# Altium footprint library uBlox.PcbLib: 4 footprints
Each footprint in its own frame and in the unit in brackets; x right, y up, seen from the top. Pads: shape width x height; smd on the part's side, far side on the other; paste and mask are expansions set on the pad; w line width, h text height; cw(c..) or ccw(c..) is an arc to the next point about the centre after c.
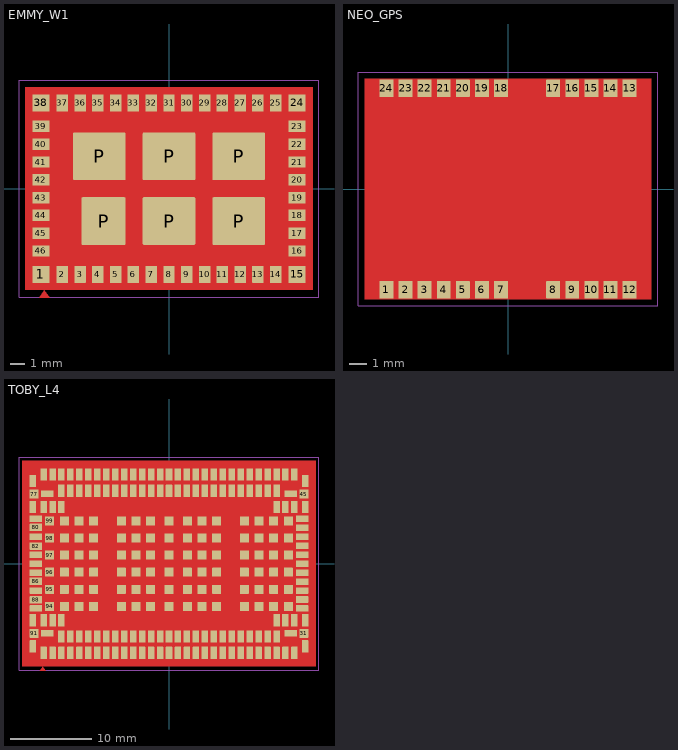
[diagram p0: the footprints below, top view; thin cyan lines are the x and y axes]

## EMMY_W1 [mm]
pads (52):
  rrect5% 1.2x1.2 smd paste-0.025 mask+0.051: 1(-9,-6.025) 15(9,-6.025) 24(9,6.025) 38(-9,6.025)
  rrect5% 0.8x1.2 smd paste-0.025 mask+0.051: 2(-7.5,-6.025) 3(-6.25,-6.025) 4(-5,-6.025) 5(-3.75,-6.025) 6(-2.5,-6.025) 7(-1.25,-6.025) 8(0,-6.025) 9(1.25,-6.025) 10(2.5,-6.025) 11(3.75,-6.025) 12(5,-6.025) 13(6.25,-6.025) 14(7.5,-6.025) 25(7.5,6.025) 26(6.25,6.025) 27(5,6.025) 28(3.75,6.025) 29(2.5,6.025) 30(1.25,6.025) 31(0,6.025) 32(-1.25,6.025) 33(-2.5,6.025) 34(-3.75,6.025) 35(-5,6.025) 36(-6.25,6.025) 37(-7.5,6.025)
  rrect5% 1.2x0.8 smd paste-0.025 mask+0.051: 16(9,-4.375) 17(9,-3.125) 18(9,-1.875) 19(9,-0.625) 20(9,0.625) 21(9,1.875) 22(9,3.125) 23(9,4.375) 39(-9,4.375) 40(-9,3.125) 41(-9,1.875) 42(-9,0.625) 43(-9,-0.625) 44(-9,-1.875) 45(-9,-3.125) 46(-9,-4.375)
  rrect5% 3.7x3.35 smd paste-200 mask+0.051: P(-4.9,2.275) P(0,-2.275) P(0,2.275) P(4.9,-2.275) P(4.9,2.275)
  rrect5% 3.1x3.35 smd paste-200 mask+0.051: P(-4.6,-2.275)
Top Layer:
  pour cut-out: -10.109,7.112 -10.109,-7.112 10.109,-7.112 10.109,7.112
  region: -8.75,-7.125 -9.109,-7.664 -8.391,-7.664
  region: -9.607,6.912 -9.587,6.912 -9.549,6.927 -9.521,6.956 -9.505,6.993 -9.505,7.013 -9.505,7.034 -9.521,7.071 -9.549,7.1 -9.587,7.115 -9.607,7.115 -10.013,7.115 -10.034,7.115 -10.071,7.1 -10.1,7.071 -10.115,7.034 -10.115,7.013 -10.115,6.607 -10.115,6.587 -10.1,6.549 -10.071,6.521 -10.034,6.505 -10.013,6.505 -9.993,6.505 -9.956,6.521 -9.927,6.549 -9.912,6.587 -9.912,6.607 -9.912,6.861 -9.911,6.871 -9.903,6.889 -9.889,6.903 -9.871,6.911 -9.861,6.912
  region: 9.912,6.607 9.912,6.587 9.927,6.549 9.956,6.521 9.993,6.505 10.013,6.505 10.034,6.505 10.071,6.521 10.1,6.549 10.115,6.587 10.115,6.607 10.115,7.013 10.115,7.034 10.1,7.071 10.071,7.1 10.034,7.115 10.013,7.115 9.607,7.115 9.587,7.115 9.549,7.1 9.521,7.071 9.505,7.034 9.505,7.013 9.505,6.993 9.521,6.956 9.549,6.927 9.587,6.912 9.607,6.912 9.861,6.912 9.871,6.911 9.889,6.903 9.903,6.889 9.911,6.871 9.912,6.861
  region: 9.607,-6.912 9.587,-6.912 9.549,-6.927 9.521,-6.956 9.505,-6.993 9.505,-7.013 9.505,-7.034 9.521,-7.071 9.549,-7.1 9.587,-7.115 9.607,-7.115 10.013,-7.115 10.034,-7.115 10.071,-7.1 10.1,-7.071 10.115,-7.034 10.115,-7.013 10.115,-6.607 10.115,-6.587 10.1,-6.549 10.071,-6.521 10.034,-6.505 10.013,-6.505 9.993,-6.505 9.956,-6.521 9.927,-6.549 9.912,-6.587 9.912,-6.607 9.912,-6.861 9.911,-6.871 9.903,-6.889 9.889,-6.903 9.871,-6.911 9.861,-6.912
  region: -9.912,-6.607 -9.912,-6.587 -9.927,-6.549 -9.956,-6.521 -9.993,-6.505 -10.013,-6.505 -10.034,-6.505 -10.071,-6.521 -10.1,-6.549 -10.115,-6.587 -10.115,-6.607 -10.115,-7.013 -10.115,-7.034 -10.1,-7.071 -10.071,-7.1 -10.034,-7.115 -10.013,-7.115 -9.607,-7.115 -9.587,-7.115 -9.549,-7.1 -9.521,-7.071 -9.505,-7.034 -9.505,-7.013 -9.505,-6.993 -9.521,-6.956 -9.549,-6.927 -9.587,-6.912 -9.607,-6.912 -9.861,-6.912 -9.871,-6.911 -9.889,-6.903 -9.903,-6.889 -9.911,-6.871 -9.912,-6.861
  region: -6,-3.95 -6.054,-3.95 -6.071,-3.95 -6.104,-3.943 -6.135,-3.931 -6.163,-3.912 -6.175,-3.9 -6.74,-3.335 -6.748,-3.327 -6.761,-3.307 -6.77,-3.285 -6.775,-3.262 -6.775,-3.25 -6.775,-0.675 -6.775,-0.66 -6.764,-0.633 -6.742,-0.611 -6.715,-0.6 -6.7,-0.6 -6,-0.6
Top Paste:
  region: 1.75,-0.697 0.25,-0.697 0.25,-2.028 1.75,-2.028
  region: -0.25,-0.697 -1.75,-0.697 -1.75,-2.028 -0.25,-2.028
  rectangle: 0.25,-3.853 1.75,-2.528
  rectangle: -1.75,-3.853 -0.25,-2.528
  region: 6.65,-0.697 5.15,-0.697 5.15,-2.028 6.65,-2.028
  region: 4.65,-0.697 3.15,-0.697 3.15,-2.028 4.65,-2.028
  rectangle: 5.15,-3.853 6.65,-2.528
  rectangle: 3.15,-3.853 4.65,-2.528
  region: 6.65,3.853 5.15,3.853 5.15,2.522 6.65,2.522
  region: 4.65,3.853 3.15,3.853 3.15,2.522 4.65,2.522
  rectangle: 5.15,0.697 6.65,2.022
  rectangle: 3.15,0.697 4.65,2.022
  region: -3.15,3.853 -4.65,3.853 -4.65,2.522 -3.15,2.522
  region: -5.15,3.853 -6.65,3.853 -6.65,2.522 -5.15,2.522
  rectangle: -4.65,0.697 -3.15,2.022
  rectangle: -6.65,0.697 -5.15,2.022
  region: 1.75,3.853 0.25,3.853 0.25,2.522 1.75,2.522
  region: -0.25,3.853 -1.75,3.853 -1.75,2.522 -0.25,2.522
  rectangle: 0.25,0.697 1.75,2.022
  rectangle: -1.75,0.697 -0.25,2.022
  rectangle: -4.65,-3.853 -3.15,-2.528
  region: -5.15,-0.697 -6.65,-0.697 -6.65,-2.028 -5.15,-2.028
  region: -3.15,-0.697 -4.65,-0.697 -4.65,-2.028 -3.15,-2.028
  region: -5.15,-2.528 -6.65,-2.528 -6.65,-3.225 -6.022,-3.853 -5.15,-3.853
Top Courtyard:
  lines w0.025: -10.541,-7.62 -10.541,7.62 10.541,7.62 10.541,-7.62 -10.541,-7.62
Top Component Outline:
  lines w0.025: -9.9,-6.9 9.9,-6.9 9.9,6.9 -9.9,6.9 -9.9,-6.9 ; -9.646,-6.392 ccw(c-9.392,-6.392) -9.392,-6.646 9.392,-6.646 ccw(c9.392,-6.392) 9.646,-6.392 9.646,6.392 ccw(c9.392,6.392) 9.392,6.646 -9.392,6.646 ccw(c-9.392,6.392) -9.646,6.392 -9.646,-6.392 ; -9.392,-6.138 ccw(c-9.138,-6.138) -9.138,-6.392 9.138,-6.392 ccw(c9.138,-6.138) 9.392,-6.138 9.392,6.138 ccw(c9.138,6.138) 9.138,6.392 -9.138,6.392 ccw(c-9.138,6.138) -9.392,6.138 -9.392,-6.138
3D body: height 0.8, standoff 0, extent -9.9,-6.9 9.9,6.9
3D body: height 2.51, standoff 2.49, extent -9.392,-6.392 9.392,6.392
3D body: height 2.5, standoff 0.25, extent -9.646,-6.646 9.646,6.646

## NEO_GPS [mm]
pads (24):
  rrect5% 0.8x1 smd paste-0.025 mask+0.051: 1(-7,-5.8) 2(-5.9,-5.8) 3(-4.8,-5.8) 4(-3.7,-5.8) 5(-2.6,-5.8) 6(-1.5,-5.8) 7(-0.4,-5.8) 8(2.6,-5.8) 9(3.7,-5.8) 10(4.8,-5.8) 11(5.9,-5.8) 12(7,-5.8) 13(7,5.8) 14(5.9,5.8) 15(4.8,5.8) 16(3.7,5.8) 17(2.6,5.8) 18(-0.4,5.8) 19(-1.5,5.8) 20(-2.6,5.8) 21(-3.7,5.8) 22(-4.8,5.8) 23(-5.9,5.8) 24(-7,5.8)
Top Layer:
  pour cut-out: 8.255,6.35 -8.255,6.35 -8.255,-6.35 8.255,-6.35
  region: -7.834,6.112 -7.814,6.112 -7.776,6.127 -7.748,6.156 -7.732,6.193 -7.732,6.213 -7.732,6.234 -7.748,6.271 -7.776,6.299 -7.814,6.315 -7.834,6.315 -8.113,6.315 -8.134,6.315 -8.171,6.3 -8.2,6.271 -8.215,6.234 -8.215,6.213 -8.215,5.807 -8.215,5.787 -8.2,5.749 -8.171,5.721 -8.134,5.705 -8.113,5.705 -8.093,5.705 -8.056,5.721 -8.027,5.749 -8.012,5.787 -8.012,5.807 -8.012,6.061 -8.011,6.071 -8.003,6.089 -7.989,6.103 -7.971,6.111 -7.961,6.112
  region: 7.834,-6.112 7.814,-6.112 7.776,-6.127 7.748,-6.156 7.732,-6.193 7.732,-6.213 7.732,-6.234 7.748,-6.271 7.776,-6.299 7.814,-6.315 7.834,-6.315 8.113,-6.315 8.134,-6.315 8.171,-6.3 8.2,-6.271 8.215,-6.234 8.215,-6.213 8.215,-5.807 8.215,-5.787 8.2,-5.749 8.171,-5.721 8.134,-5.705 8.113,-5.705 8.093,-5.705 8.056,-5.721 8.027,-5.749 8.012,-5.787 8.012,-5.807 8.012,-6.061 8.011,-6.071 8.003,-6.089 7.989,-6.103 7.971,-6.111 7.961,-6.112
  region: 7.834,6.112 7.814,6.112 7.776,6.127 7.748,6.156 7.732,6.193 7.732,6.213 7.732,6.234 7.748,6.271 7.776,6.299 7.814,6.315 7.834,6.315 8.113,6.315 8.134,6.315 8.171,6.3 8.2,6.271 8.215,6.234 8.215,6.213 8.215,5.807 8.215,5.787 8.2,5.749 8.171,5.721 8.134,5.705 8.113,5.705 8.093,5.705 8.056,5.721 8.027,5.749 8.012,5.787 8.012,5.807 8.012,6.061 8.011,6.071 8.003,6.089 7.989,6.103 7.971,6.111 7.961,6.112
  region: -7.834,-6.112 -7.814,-6.112 -7.776,-6.127 -7.748,-6.156 -7.732,-6.193 -7.732,-6.213 -7.732,-6.234 -7.748,-6.271 -7.776,-6.299 -7.814,-6.315 -7.834,-6.315 -8.113,-6.315 -8.134,-6.315 -8.171,-6.3 -8.2,-6.271 -8.215,-6.234 -8.215,-6.213 -8.215,-5.807 -8.215,-5.787 -8.2,-5.749 -8.171,-5.721 -8.134,-5.705 -8.113,-5.705 -8.093,-5.705 -8.056,-5.721 -8.027,-5.749 -8.012,-5.787 -8.012,-5.807 -8.012,-6.061 -8.011,-6.071 -8.003,-6.089 -7.989,-6.103 -7.971,-6.111 -7.961,-6.112
Top Courtyard:
  lines w0.025: -8.636,-6.731 8.636,-6.731 8.636,6.731 -8.636,6.731 -8.636,-6.731
Top Component Outline:
  drawing of 284 lines, arcs and shapes, not listed
3D body "NEO.STEP": height 2.3, standoff -0.03, extent -8,-6.1 8,6.1

## TOBY_L4 [mm]
pads (248):
  rrect5% 0.8x1.5 smd paste-0.025 mask+0.051: 1(-15.4,-10.95) 2(-14.3,-10.95) 3(-13.2,-10.95) 4(-12.1,-10.95) 5(-11,-10.95) 6(-9.9,-10.95) 7(-8.8,-10.95) 8(-7.7,-10.95) 9(-6.6,-10.95) 10(-5.5,-10.95) 11(-4.4,-10.95) 12(-3.3,-10.95) 13(-2.2,-10.95) 14(-1.1,-10.95) 15(0,-10.95) 16(1.1,-10.95) 17(2.2,-10.95) 18(3.3,-10.95) 19(4.4,-10.95) 20(5.5,-10.95) 21(6.6,-10.95) 22(7.7,-10.95) 23(8.8,-10.95) 24(9.9,-10.95) 25(11,-10.95) 26(12.1,-10.95) 27(13.2,-10.95) 28(14.3,-10.95) 29(15.4,-10.95) 30(16.7,-10.15) 32(16.7,-6.95) 44(16.7,6.95) 46(16.7,10.15) 47(15.4,10.95) 48(14.3,10.95) 49(13.2,10.95) 50(12.1,10.95) 51(11,10.95) 52(9.9,10.95) 53(8.8,10.95) 54(7.7,10.95) 55(6.6,10.95) 56(5.5,10.95) 57(4.4,10.95) 58(3.3,10.95) 59(2.2,10.95) 60(1.1,10.95) 61(0,10.95) 62(-1.1,10.95) 63(-2.2,10.95) 64(-3.3,10.95) 65(-4.4,10.95) 66(-5.5,10.95) 67(-6.6,10.95) 68(-7.7,10.95) 69(-8.8,10.95) 70(-9.9,10.95) 71(-11,10.95) 72(-12.1,10.95) 73(-13.2,10.95) 74(-14.3,10.95) 75(-15.4,10.95) 76(-16.7,10.15) 78(-16.7,6.95) 90(-16.7,-6.95) 92(-16.7,-10.15) 153(-15.4,-6.95) 154(-15.4,6.95) 155(-14.3,-6.95) 156(-14.3,6.95) 157(-13.2,-6.95) 158(-13.2,6.95) 193(13.2,-6.95) 194(13.2,6.95) 195(14.3,-6.95) 196(14.3,6.95) 197(15.4,-6.95) 198(15.4,6.95) 199(-13.2,-8.95) 200(-12.1,-8.95) 201(-11,-8.95) 202(-9.9,-8.95) 203(-8.8,-8.95) 204(-7.7,-8.95) 205(-6.6,-8.95) 206(-5.5,-8.95) 207(-4.4,-8.95) 208(-3.3,-8.95) 209(-2.2,-8.95) 210(-1.1,-8.95) 211(0,-8.95) 212(1.1,-8.95) 213(2.2,-8.95) 214(3.3,-8.95) 215(4.4,-8.95) 216(5.5,-8.95) 217(6.6,-8.95) 218(7.7,-8.95) 219(8.8,-8.95) 220(9.9,-8.95) 221(11,-8.95) 222(12.1,-8.95) 223(13.2,-8.95) 224(13.2,8.95) 225(12.1,8.95) 226(11,8.95) 227(9.9,8.95) 228(8.8,8.95) 229(7.7,8.95) 230(6.6,8.95) 231(5.5,8.95) 232(4.4,8.95) 233(3.3,8.95) 234(2.2,8.95) 235(1.1,8.95) 236(0,8.95) 237(-1.1,8.95) 238(-2.2,8.95) 239(-3.3,8.95) 240(-4.4,8.95) 241(-5.5,8.95) 242(-6.6,8.95) 243(-7.7,8.95) 244(-8.8,8.95) 245(-9.9,8.95) 246(-11,8.95) 247(-12.1,8.95) 248(-13.2,8.95)
  rrect5% 1.1x1.1 smd paste-0.025 mask+0.051: 31(16.55,-8.55) 45(16.55,8.55) 77(-16.55,8.55) 91(-16.55,-8.55) 94(-14.65,-5.25) 95(-14.65,-3.15) 96(-14.65,-1.05) 97(-14.65,1.05) 98(-14.65,3.15) 99(-14.65,5.25) 101(-12.85,-5.25) 102(-12.85,-3.15) 103(-12.85,-1.05) 104(-12.85,1.05) 105(-12.85,3.15) 106(-12.85,5.25) 107(-11.05,-5.25) 108(-11.05,5.25) 109(-5.85,-5.25) 110(-5.85,-3.15) 111(-5.85,-1.05) 112(-5.85,1.05) 113(-5.85,3.15) 114(-5.85,5.25) 115(-4.05,-5.25) 116(-4.05,-3.15) 117(-4.05,-1.05) 118(-4.05,1.05) 119(-4.05,3.15) 120(-4.05,5.25) 121(-2.25,-5.25) 122(-2.25,5.25) 123(2.25,-5.25) 124(2.25,5.25) 125(4.05,-5.25) 126(4.05,-3.15) 127(4.05,-1.05) 128(4.05,1.05) 129(4.05,3.15) 130(4.05,5.25) 131(5.85,-5.25) 132(5.85,-3.15) 133(5.85,-1.05) 134(5.85,1.05) 135(5.85,3.15) 136(5.85,5.25) 137(11.05,-5.25) 138(11.05,5.25) 139(12.85,-5.25) 140(12.85,-3.15) 141(12.85,-1.05) 142(12.85,1.05) 143(12.85,3.15) 144(12.85,5.25) 146(14.65,-5.25) 147(14.65,-3.15) 148(14.65,-1.05) 149(14.65,1.05) 150(14.65,3.15) 151(14.65,5.25) 159(-11.05,-3.15) 160(-11.05,-1.05) 161(-11.05,1.05) 162(-11.05,3.15) 163(-9.25,-5.25) 164(-9.25,-3.15) 165(-9.25,-1.05) 166(-9.25,1.05) 167(-9.25,3.15) 168(-9.25,5.25) 169(-2.25,-3.15) 170(-2.25,-1.05) 171(-2.25,1.05) 172(-2.25,3.15) 173(0,-5.25) 174(0,-3.15) 175(0,-1.05) 176(0,1.05) 177(0,3.15) 178(0,5.25) 179(2.25,-3.15) 180(2.25,-1.05) 181(2.25,1.05) 182(2.25,3.15) 183(9.25,-5.25) 184(9.25,-3.15) 185(9.25,-1.05) 186(9.25,1.05) 187(9.25,3.15) 188(9.25,5.25) 189(11.05,-3.15) 190(11.05,-1.05) 191(11.05,1.05) 192(11.05,3.15)
  rrect5% 1.5x0.8 smd paste-0.025 mask+0.051: 33(16.35,-5.5) 34(16.35,-4.4) 35(16.35,-3.3) 36(16.35,-2.2) 37(16.35,-1.1) 38(16.35,0) 39(16.35,1.1) 40(16.35,2.2) 41(16.35,3.3) 42(16.35,4.4) 43(16.35,5.5) 79(-16.35,5.5) 81(-16.35,3.3) 83(-16.35,1.1) 84(-16.35,0) 85(-16.35,-1.1) 87(-16.35,-3.3) 89(-16.35,-5.5) 93(-14.95,-8.555) 100(-14.95,8.555) 145(14.95,-8.555) 152(14.95,8.555)
  rrect5% 1.5x0.9 smd paste-0.025 mask+0.051: 80(-16.35,4.45) 82(-16.35,2.15) 86(-16.35,-2.15) 88(-16.35,-4.45)
Top Layer:
  pour cut-out: 18.034,12.624 -18.034,12.624 -18.034,-12.624 18.034,-12.624
  region: -15.5,-12.625 -15.859,-13.164 -15.141,-13.164
  region: 17.507,-12.412 17.487,-12.412 17.449,-12.427 17.421,-12.456 17.405,-12.493 17.405,-12.513 17.405,-12.534 17.421,-12.571 17.449,-12.599 17.487,-12.615 17.507,-12.615 17.913,-12.615 17.934,-12.615 17.971,-12.599 18,-12.571 18.015,-12.534 18.015,-12.513 18.015,-12.107 18.015,-12.087 18,-12.049 17.971,-12.021 17.934,-12.005 17.913,-12.005 17.893,-12.005 17.856,-12.021 17.827,-12.049 17.812,-12.087 17.812,-12.107 17.812,-12.361 17.811,-12.371 17.803,-12.389 17.789,-12.403 17.771,-12.411 17.761,-12.412
  region: -17.812,-12.107 -17.812,-12.087 -17.827,-12.049 -17.856,-12.021 -17.893,-12.005 -17.913,-12.005 -17.934,-12.005 -17.971,-12.021 -18,-12.049 -18.015,-12.087 -18.015,-12.107 -18.015,-12.513 -18.015,-12.534 -18,-12.571 -17.971,-12.6 -17.934,-12.615 -17.913,-12.615 -17.507,-12.615 -17.487,-12.615 -17.449,-12.6 -17.421,-12.571 -17.405,-12.534 -17.405,-12.513 -17.405,-12.493 -17.421,-12.456 -17.449,-12.427 -17.487,-12.412 -17.507,-12.412 -17.761,-12.412 -17.771,-12.411 -17.789,-12.403 -17.803,-12.389 -17.811,-12.371 -17.812,-12.361
  region: -17.507,12.412 -17.487,12.412 -17.449,12.427 -17.421,12.456 -17.405,12.493 -17.405,12.513 -17.405,12.534 -17.421,12.571 -17.449,12.6 -17.487,12.615 -17.507,12.615 -17.913,12.615 -17.934,12.615 -17.971,12.6 -18,12.571 -18.015,12.534 -18.015,12.513 -18.015,12.107 -18.015,12.087 -18,12.049 -17.971,12.021 -17.934,12.005 -17.913,12.005 -17.893,12.005 -17.856,12.021 -17.827,12.049 -17.812,12.087 -17.812,12.107 -17.812,12.361 -17.811,12.371 -17.803,12.389 -17.789,12.403 -17.771,12.411 -17.761,12.412
  region: 17.812,12.107 17.812,12.087 17.827,12.049 17.856,12.021 17.893,12.005 17.913,12.005 17.934,12.005 17.971,12.021 18,12.049 18.015,12.087 18.015,12.107 18.015,12.513 18.015,12.534 18,12.571 17.971,12.6 17.934,12.615 17.913,12.615 17.507,12.615 17.487,12.615 17.449,12.6 17.421,12.571 17.405,12.534 17.405,12.513 17.405,12.493 17.421,12.456 17.449,12.427 17.487,12.412 17.507,12.412 17.761,12.412 17.771,12.411 17.789,12.403 17.803,12.389 17.811,12.371 17.812,12.361
Top Courtyard:
  lines w0.025: -18.415,-13.081 -18.415,13.081 18.415,13.081 18.415,-13.081 -18.415,-13.081
Top Component Outline:
  lines w0.025: -0.254,0 0,0 0,0.254 ; -17.8,-12.4 -17.8,12.4 17.8,12.4 17.8,-12.4 -17.8,-12.4 ; -17.546,-11.892 ccw(c-17.292,-11.892) -17.292,-12.146 17.292,-12.146 ccw(c17.292,-11.892) 17.546,-11.892 17.546,11.892 ccw(c17.292,11.892) 17.292,12.146 -17.292,12.146 ccw(c-17.292,11.892) -17.546,11.892 -17.546,-11.892 ; -17.292,-11.638 ccw(c-17.038,-11.638) -17.038,-11.892 17.038,-11.892 ccw(c17.038,-11.638) 17.292,-11.638 17.292,11.638 ccw(c17.038,11.638) 17.038,11.892 -17.038,11.892 ccw(c-17.038,11.638) -17.292,11.638 -17.292,-11.638
3D body: height 0.8, standoff 0, extent -17.8,-12.4 17.8,12.4
3D body: height 2.57, standoff 0.25, extent -17.546,-12.146 17.546,12.146
3D body: height 2.6, standoff 2.54, extent -17.292,-11.892 17.292,11.892

## ZED-F9T [mm] "Example Component"
height 0.508
Top Designator:
  text ".Designator" at -3.242,-0.317 h0.89
3D body "ZED_STEP_AP214.STEP": height 2.47, standoff -0.01, extent -11.203,-7.856 10.797,9.144